# Altium footprint library Sheye-Capacitor.PcbLib: 52 footprints (part 3 of 4)
Each footprint in its own frame and in the unit in brackets; x right, y up, seen from the top. Pads: shape width x height; smd on the part's side, far side on the other; paste and mask are expansions set on the pad; w line width, h text height; cw(c..) or ccw(c..) is an arc to the next point about the centre after c.
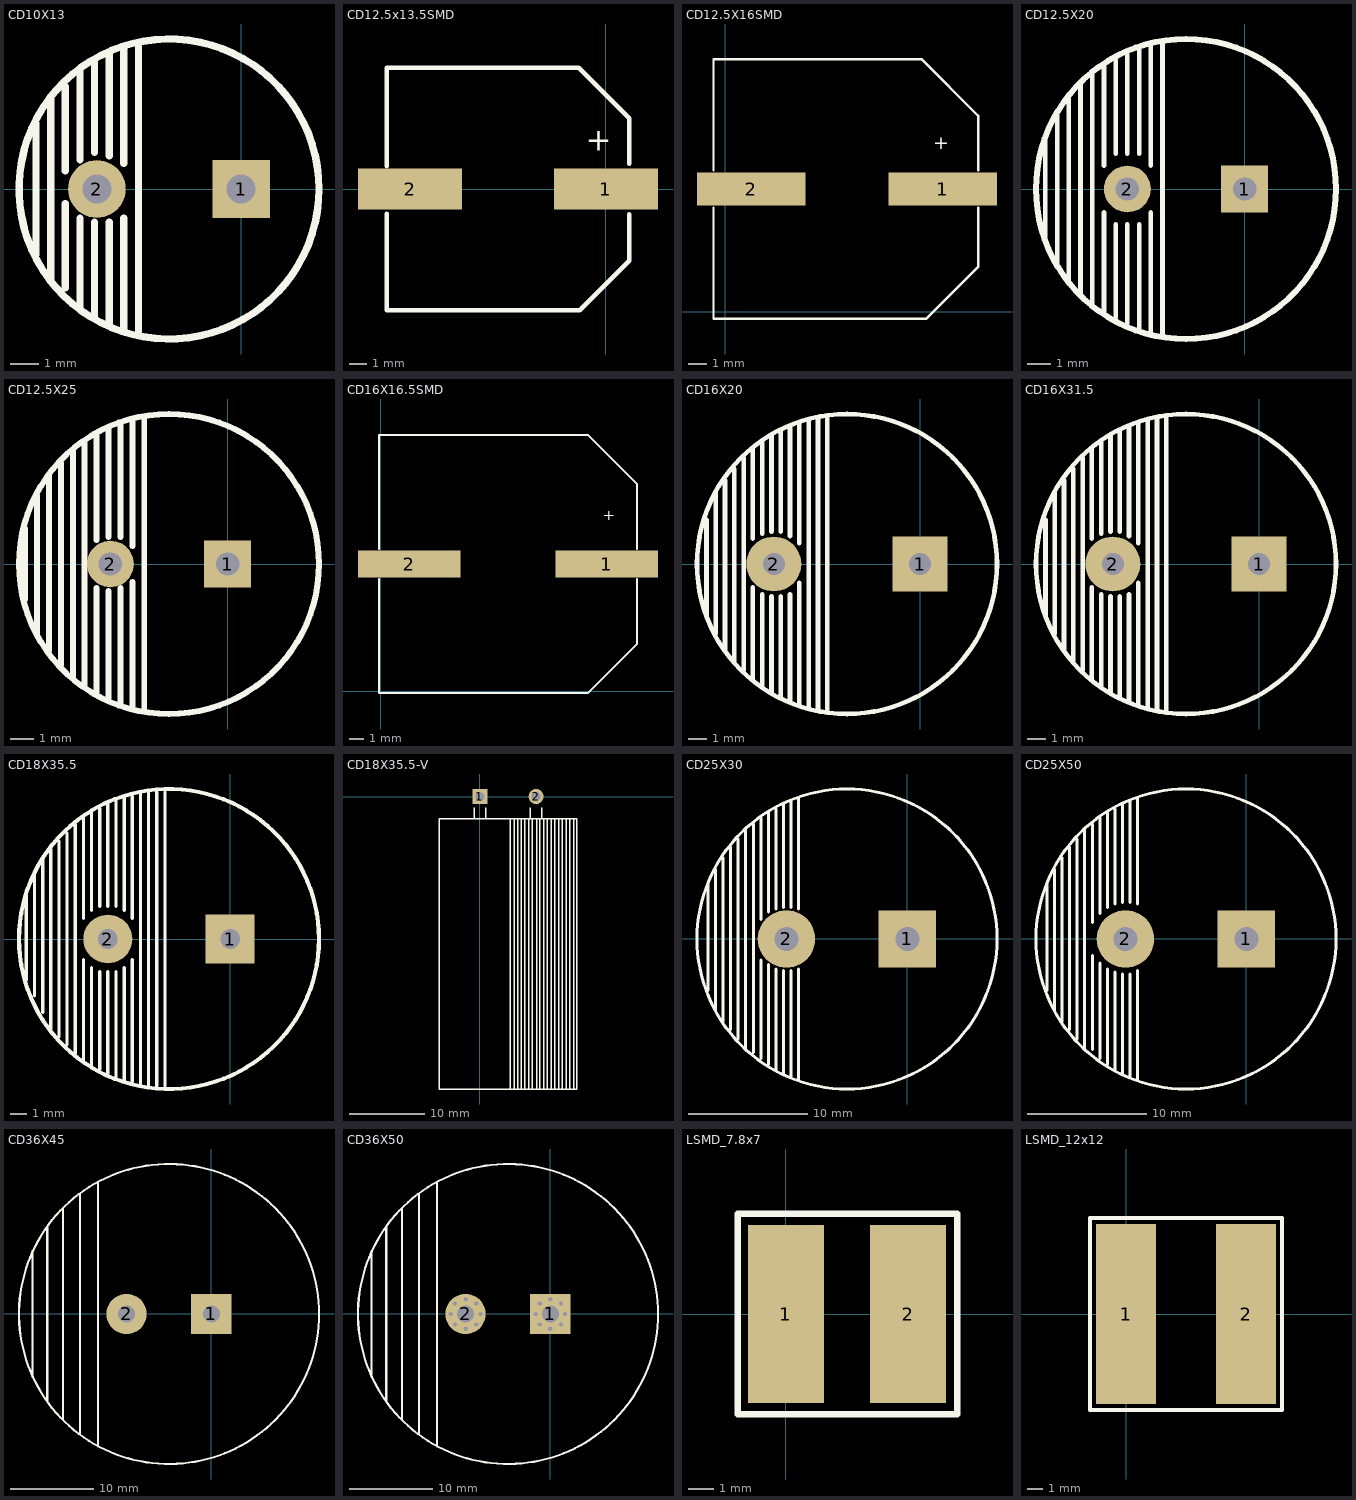
[diagram p2: the footprints below, top view; thin cyan lines are the x and y axes]

## CD10X13 [mm] "C-RB5/10"
pads (2):
  rect 2x2 hole 1: 1(0,0)
  round 2 hole 1: 2(-5,0)
Top Overlay:
  circle w0.254: c-2.5,0 r5.2
  lines w0.254: -7.112,-2.286 -7.112,2.286 ; -6.604,-3.175 -6.604,3.175 ; -6.096,-3.429 -6.096,-0.508 ; -6.096,0.635 -6.096,3.556 ; -5.588,-4.064 -5.588,-1.016 ; -5.588,1.016 -5.588,4.064 ; -5.08,-4.445 -5.08,-1.143 ; -5.08,1.27 -5.08,4.445 ; -4.572,-4.699 -4.572,-1.143 ; -4.572,1.143 -4.572,4.699 ; -4.064,-4.826 -4.064,-1.016 ; -4.064,0.889 -4.064,4.826 ; -3.556,-5.08 -3.556,4.953
3D body: height 13.08, standoff 0.08, extent -7.52,-4.953 2.44,5.027
3D body: height 0.25, standoff -2.54, extent -0.254,-0.254 0.252,0.253
3D body: height 0.25, standoff -2.54, extent -5.254,-0.254 -4.748,0.253

## CD12.5x13.5SMD [mil]
pads (2):
  rect 230x90 smd: 1(0,0) 2(-433.07,0)
Top Overlay:
  lines w10: -484.25,-54.25 -484.25,-267.72 -58.25,-267.72 51.18,-158.28 51.18,-56.18 ; -484.25,50.75 -484.25,267.72 -60.25,267.72 51.18,156.28 51.18,56.18
  text "+" at -45,85 h50
3D body: height 7.87, standoff 0, extent -95.04,-31 74.46,30
3D body: height 7.87, standoff 0, extent -509.04,-30 -339.54,31
3D body: height 78.74, standoff 7.87, extent -471.54,-255 36.46,256
3D body: height 543.31, standoff 11.81, extent -463.69,-245.19 27.46,245

## CD12.5X16SMD [mil]
pads (2):
  rect 230x70 smd: 1(460,260) 2(55,260)
Top Overlay:
  lines w5: -25,220 -25,-15 425,-15 535,95 535,220 ; -25,300 -25,535 415,535 535,415 535,300
  text "+" at 440,335 h50
3D body: height 669.3, standoff 0, extent -50,-10 560.24,529.37

## CD12.5X20 [mm] "C-RB5/12.5"
pads (2):
  rect 2x2 hole 1: 1(0,0)
  round 2 hole 1: 2(-5,0)
Top Overlay:
  circle w0.254: c-2.5,0 r6.4
  lines w0.2: -8.5,-2.25 -8.5,2.25 ; -8,-3.25 -8,3.25 ; -7.5,-4 -7.5,4 ; -7,-4.5 -7,4.5 ; -6.5,-5 -6.5,5 ; -6,-5.25 -6,-1 ; -6,1 -6,5.25 ; -5.5,-5.5 -5.5,-1.5 ; -5.5,1.5 -5.5,5.5 ; -5,-5.75 -5,-1.5 ; -5,1.5 -5,5.75 ; -4.5,-6 -4.5,-5.5 -4.5,-1.5 ; -4.5,1.5 -4.5,6 ; -4,-6.25 -4,-1 ; -4,1 -4,6.25 ; -3.5,-6.25 -3.5,6.25
3D body: height 0.25, standoff -2.54, extent -5.254,-0.254 -4.748,0.253
3D body: height 0.25, standoff -2.54, extent -0.254,-0.254 0.252,0.253
3D body: height 21.08, standoff 0.08, extent -8.765,-6.223 3.685,6.252

## CD12.5X25 [mm] "C-RB5/12.5"
pads (2):
  rect 2x2 hole 1: 1(0,0)
  round 2 hole 1: 2(-5,0)
Top Overlay:
  circle w0.254: c-2.5,0 r6.4
  lines w0.254: -8.636,-1.524 -8.636,1.524 ; -8.128,-3.048 -8.128,2.921 ; -7.62,-3.683 -7.62,3.81 ; -7.112,-4.318 -7.112,4.318 ; -6.604,-4.826 -6.604,4.826 ; -6.096,-5.207 -6.096,5.207 ; -5.588,-5.588 -5.588,-1.016 ; -5.588,1.016 -5.588,5.588 ; -5.08,-5.715 -5.08,-1.143 ; -5.08,1.143 -5.08,5.842 ; -4.572,-5.969 -4.572,-1.016 ; -4.572,1.143 -4.572,5.969 ; -4.064,-6.096 -4.064,-0.762 ; -4.064,0.762 -4.064,6.096 ; -3.556,-6.223 -3.556,6.223
3D body: height 26.08, standoff 0.08, extent -8.765,-6.223 3.685,6.252
3D body: height 0.25, standoff -2.54, extent -0.254,-0.254 0.252,0.253
3D body: height 0.25, standoff -2.54, extent -5.254,-0.254 -4.748,0.253

## CD16X16.5SMD [mil]
pads (2):
  rect 270x70 smd: 1(595,335) 2(75,335)
Top Overlay:
  lines w5: -5,295 -5,-5 545,-5 675,125 675,295 ; -5,375 -5,675 545,675 675,545 675,375
  text "+" at 585,440 h50
3D body: height 649.8, standoff -0.2, extent -13.43,0 683.43,669.29

## CD16X20 [mm] "C-RB8/16"
pads (2):
  rect 3x3 hole 1.2: 1(0,0)
  round 3 hole 1.2: 2(-8,0)
Top Overlay:
  circle w0.254: c-4,0 r8.2
  lines w0.254: -11.684,-2.794 -11.684,2.413 ; -11.176,-3.81 -11.176,3.937 ; -10.668,-4.699 -10.668,4.572 ; -10.16,-5.334 -10.16,5.207 ; -9.652,-5.842 -9.652,5.842 ; -9.144,-6.35 -9.144,-1.27 ; -9.144,1.397 -9.144,6.35 ; -8.636,-6.731 -8.636,-1.651 ; -8.636,1.651 -8.636,6.731 ; -8.128,-6.985 -8.128,-1.778 ; -8.128,1.778 -8.128,6.985 ; -7.62,-7.239 -7.62,-1.778 ; -7.62,1.778 -7.62,7.239 ; -7.112,-7.493 -7.112,-1.651 ; -7.112,1.524 -7.112,7.493 ; -6.604,-7.747 -6.604,-1.016 ; -6.604,1.143 -6.604,7.747 ; -6.096,-7.874 -6.096,7.874 ; -5.588,-8.001 -5.588,8.001 ; -5.08,-8.128 -5.08,8.128
3D body: height 0.25, standoff -2.54, extent -8.254,-0.254 -7.748,0.253
3D body: height 0.25, standoff -2.54, extent -0.254,-0.254 0.252,0.253
3D body: height 21.08, standoff 0.08, extent -12.032,-8.001 3.904,7.967

## CD16X31.5 [mm] "C-RB8/16"
pads (2):
  rect 3x3 hole 1.2: 1(0,0)
  round 3 hole 1.2: 2(-8,0)
Top Overlay:
  circle w0.254: c-4,0 r8.2
  lines w0.254: -11.684,-2.794 -11.684,2.413 ; -11.176,-3.81 -11.176,3.937 ; -10.668,-4.699 -10.668,4.572 ; -10.16,-5.334 -10.16,5.207 ; -9.652,-5.842 -9.652,5.842 ; -9.144,-6.35 -9.144,-1.27 ; -9.144,1.397 -9.144,6.35 ; -8.636,-6.731 -8.636,-1.651 ; -8.636,1.651 -8.636,6.731 ; -8.128,-6.985 -8.128,-1.778 ; -8.128,1.778 -8.128,6.985 ; -7.62,-7.239 -7.62,-1.778 ; -7.62,1.778 -7.62,7.239 ; -7.112,-7.493 -7.112,-1.651 ; -7.112,1.524 -7.112,7.493 ; -6.604,-7.747 -6.604,-1.016 ; -6.604,1.143 -6.604,7.747 ; -6.096,-7.874 -6.096,7.874 ; -5.588,-8.001 -5.588,8.001 ; -5.08,-8.128 -5.08,8.128
3D body: height 0.25, standoff -2.54, extent -8.254,-0.254 -7.748,0.253
3D body: height 0.25, standoff -2.54, extent -0.254,-0.254 0.252,0.253
3D body: height 32.08, standoff 0.08, extent -12.032,-8.001 3.904,7.967

## CD18X35.5 [mm] "C-RB9/18"
pads (2):
  rect 3x3 hole 1.2: 1(0,0)
  round 3 hole 1.2: 2(-7.5,0)
Top Overlay:
  circle w0.254: c-3.75,0 r9.2
  lines w0.2: -12.5,-2.5 -12.5,2.75 ; -12,-3.5 -12,4 ; -11.5,-4.5 -11.5,5 ; -11,-5.5 -11,5.5 ; -10.5,-6 -10.5,6 ; -10,-6.5 -10,6.5 ; -9.5,-7 -9.5,7 ; -9,-7.5 -9,-1.25 ; -9,1.25 -9,7.5 ; -8.5,-7.75 -8.5,-1.75 ; -8.5,1.75 -8.5,7.75 ; -8,-8 -8,-2 ; -8,2 -8,8 ; -7.5,-8.25 -7.5,-2 ; -7.5,2 -7.5,8.25 ; -7,-8.5 -7,-2 ; -7,2 -7,8.5 ; -6.5,-8.75 -6.5,-8.25 -6.5,-1.75 ; -6.5,1.75 -6.5,8.75 ; -6,-8.75 -6,-1.25 ; -6,1.25 -6,8.75 ; -5.5,-9 -5.5,-8.5 -5.5,9 ; -5,-9 -5,9 ; -4.5,-9 -4.5,9 ; -4,-9 -4,9
3D body: height 36.08, standoff 0.08, extent -12.652,-8.89 5.278,9.074

## CD18X35.5-V [mm]
pads (2):
  rect 2x2 hole 1.2: 1(0,0)
  round 2 hole 1.2: 2(7.5,0)
Top Overlay:
  lines w0.2: -0.75,-3 -0.75,-1.5 ; 0.75,-3 0.75,-1.5 ; 4.05,-39 4.05,-3 ; 4.55,-39 4.55,-3.25 4.55,-3 ; 5.05,-39 5.05,-3 ; 5.55,-39 5.55,-3 ; 6,-39 6,-3 ; 6.5,-39 6.5,-3.25 6.5,-3 ; 6.75,-3 6.75,-1.5 ; 7,-39 7,-3 ; 7.55,-39 7.55,-3 ; 8,-39 8,-3 ; 8.25,-3 8.25,-1.5 ; 8.5,-39 8.5,-3.25 8.5,-3 ; 9,-39 9,-3 ; 9.55,-39 9.55,-3 ; 10,-39 10,-3 ; 10.5,-39 10.5,-3.25 10.5,-3 ; 11,-39 11,-3 ; 11.55,-39 11.55,-3 ; 12,-39 12,-3 ; 12.5,-39 12.5,-3.25 12.5,-3 ; -5.45,-39 -5.45,-3 12.95,-3 12.95,-39 -5.45,-39
3D body: height 19, standoff 1.07, extent -5.232,-39 12.732,-3
3D body: height 11, standoff 9.01, extent 6.502,-3 8.498,1
3D body: height 11, standoff 9.01, extent -0.998,-3 0.998,1
3D body: height 10, standoff -3, extent -0.996,-0.996 0.996,1
3D body: height 10, standoff -3, extent 6.504,-0.996 8.496,1

## CD25X30 [mil]
pads (2):
  rect 190x190 hole 80: 1(0,0)
  round 190 hole 80: 2(-400.37,0)
Top Overlay:
  circle w10: c-200,0 r496.06
  lines w10: -660,-170 -660,180 ; -635,-235 -635,230 ; -610,-275 -610,270 ; -585,-300 -585,305 ; -560,-330 -560,330 ; -535,-360 -535,360 ; -510,-375 -510,380 ; -485,-395 -485,-70 ; -485,65 -485,400 ; -460,-415 -460,-85 ; -460,90 -460,420 ; -435,-435 -435,-100 ; -435,100 -435,430 ; -410,-445 -410,-105 ; -410,105 -410,445 ; -385,-455 -385,-105 ; -385,105 -385,455 ; -360,-465 -360,-100 ; -360,100 -360,465
3D body: height 10, standoff -100, extent -439.58,-40 -361.16,38.58
3D body: height 10, standoff -100, extent -39.21,-40 39.21,38.58
3D body: height 1223.47, standoff 3, extent -690.19,-495 290.19,487.31

## CD25X50 [mil]
pads (2):
  rect 190x190 hole 80: 1(0,0)
  round 190 hole 80: 2(-400.37,0)
Top Overlay:
  circle w10: c-200,0 r496.06
  lines w10: -660,-170 -660,180 ; -635,-235 -635,230 ; -610,-275 -610,270 ; -585,-300 -585,305 ; -560,-330 -560,330 ; -535,-360 -535,360 ; -510,-365 -510,-55 ; -510,55 -510,380 ; -485,-395 -485,-80 ; -485,85 -485,400 ; -460,-415 -460,-100 ; -460,105 -460,420 ; -435,-435 -435,-110 ; -435,115 -435,430 ; -410,-445 -410,-115 ; -410,120 -410,445 ; -385,-455 -385,-115 ; -385,120 -385,455 ; -360,-465 -360,-105 ; -360,115 -360,465
3D body: height 2010.87, standoff 3, extent -690.19,-495 290.19,487.31
3D body: height 10, standoff -100, extent -39.21,-40 39.21,38.58
3D body: height 10, standoff -100, extent -439.58,-40 -361.16,38.58

## CD36X45 [mil] "C-RB10/36"
pads (2):
  rect 190x190 hole 80: 1(0,0)
  round 190 hole 80: 2(-400.37,0)
Top Overlay:
  circle w10: c-200,0 r708.66
  lines w10: -845,-290 -845,290 ; -775,-410 -775,410 ; -700,-500 -700,500 ; -620,-565 -620,570 ; -535,-625 -535,620
3D body: height 1814.02, standoff 3, extent -901.73,-712.26 510,702.26
3D body: height 10, standoff -100, extent -39.21,-40 39.21,38.58
3D body: height 10, standoff -100, extent -439.58,-40 -361.16,38.58

## CD36X50 [mil] "C-RB10/36"
pads (2):
  rect 190x190 hole 80: 1(0,0)
  round 190 hole 80: 2(-400.37,0)
via -450,-50 diameter 40 hole 20
via -450,50 diameter 40 hole 20
via -350,50 diameter 40 hole 20
via -350,-50 diameter 40 hole 20
via -330,0 diameter 40 hole 20
via -400,-70 diameter 40 hole 20
via -470,0 diameter 40 hole 20
via -400,70 diameter 40 hole 20
via 50,-50 diameter 40 hole 20
via 0,-70 diameter 40 hole 20
via -50,-50 diameter 40 hole 20
via -68.9,0 diameter 40 hole 20
via -50,50 diameter 40 hole 20
via 0,70 diameter 40 hole 20
via 50,50 diameter 40 hole 20
via 68.9,0 diameter 40 hole 20
Top Overlay:
  circle w10: c-200,0 r708.66
  lines w10: -845,-290 -845,290 ; -775,-410 -775,410 ; -700,-500 -700,500 ; -620,-565 -620,570 ; -535,-625 -535,620
3D body: height 2010.87, standoff 3, extent -901.73,-712.26 510,702.26
3D body: height 10, standoff -100, extent -39.21,-40 39.21,38.58
3D body: height 10, standoff -100, extent -439.58,-40 -361.16,38.58

## LSMD_7.8x7 [mm] "SMD7850"
pads (2):
  rect 3x7 smd: 1(0,0) 2(4.8,0)
Top Overlay:
  lines w0.254: -1.905,-3.937 6.731,-3.937 6.731,3.937 -1.905,3.937 -1.905,-3.937
3D body: height 5, standoff 0.2, extent -1.905,-3.937 6.731,3.937

## LSMD_12x12 [mm]
pads (2):
  rect 4x12 smd: 1(0,0) 2(8,0)
Top Overlay:
  lines w0.254: -2.4,-6.4 10.4,-6.4 10.4,6.4 -2.4,6.4 -2.4,-6.4
3D body: height 8, standoff 0.2, extent -2.388,-6.401 10.414,6.401